# Altium schematic symbol library SCH - ARM CORTEX - ST STM32G031CxU UFQFPN48.SCHLIB: 1 symbol
Pins are listed as number, name and electrical type; pins without a type are passive.

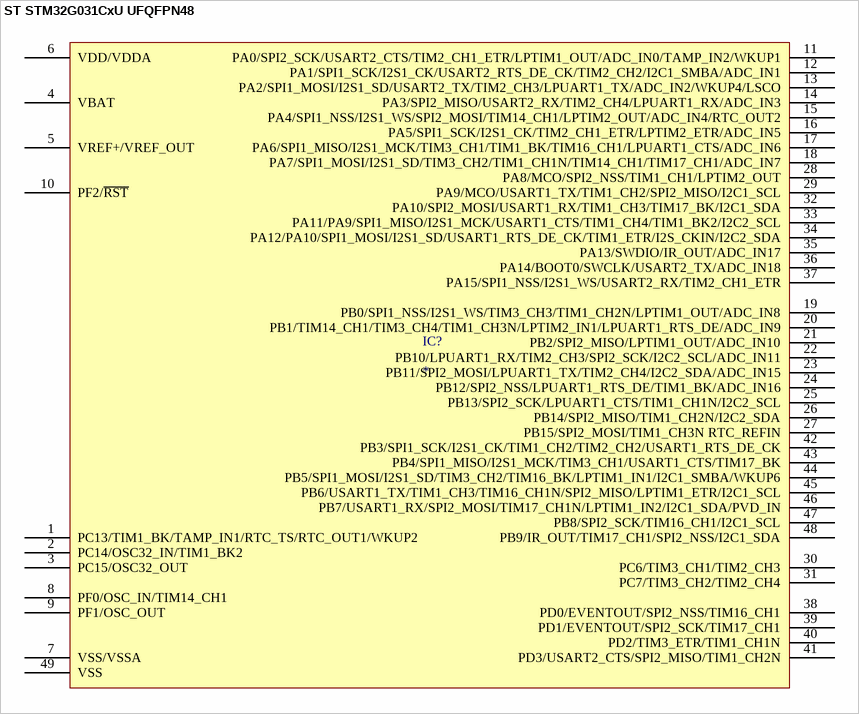
[diagram p0: symbol ST STM32G031CxU UFQFPN48]

## ST STM32G031CxU UFQFPN48
designator IC?
pins: 1 PC13/TIM1_BK/TAMP_IN1/RTC_TS/RTC_OUT1/WKUP2, 2 PC14/OSC32_IN/TIM1_BK2, 3 PC15/OSC32_OUT, 4 VBAT, 5 VREF+/VREF_OUT, 6 VDD/VDDA, 7 VSS/VSSA, 8 PF0/OSC_IN/TIM14_CH1, 9 PF1/OSC_OUT, 10 PF2/~{RST}, 11 PA0/SPI2_SCK/USART2_CTS/TIM2_CH1_ETR/LPTIM1_OUT/ADC_IN0/TAMP_IN2/WKUP1, 12 PA1/SPI1_SCK/I2S1_CK/USART2_RTS_DE_CK/TIM2_CH2/I2C1_SMBA/ADC_IN1, 13 PA2/SPI1_MOSI/I2S1_SD/USART2_TX/TIM2_CH3/LPUART1_TX/ADC_IN2/WKUP4/LSCO, 14 PA3/SPI2_MISO/USART2_RX/TIM2_CH4/LPUART1_RX/ADC_IN3, 15 PA4/SPI1_NSS/I2S1_WS/SPI2_MOSI/TIM14_CH1/LPTIM2_OUT/ADC_IN4/RTC_OUT2, 16 PA5/SPI1_SCK/I2S1_CK/TIM2_CH1_ETR/LPTIM2_ETR/ADC_IN5, 17 PA6/SPI1_MISO/I2S1_MCK/TIM3_CH1/TIM1_BK/TIM16_CH1/LPUART1_CTS/ADC_IN6, 18 PA7/SPI1_MOSI/I2S1_SD/TIM3_CH2/TIM1_CH1N/TIM14_CH1/TIM17_CH1/ADC_IN7, 19 PB0/SPI1_NSS/I2S1_WS/TIM3_CH3/TIM1_CH2N/LPTIM1_OUT/ADC_IN8, 20 PB1/TIM14_CH1/TIM3_CH4/TIM1_CH3N/LPTIM2_IN1/LPUART1_RTS_DE/ADC_IN9, 21 PB2/SPI2_MISO/LPTIM1_OUT/ADC_IN10, 22 PB10/LPUART1_RX/TIM2_CH3/SPI2_SCK/I2C2_SCL/ADC_IN11, 23 PB11/SPI2_MOSI/LPUART1_TX/TIM2_CH4/I2C2_SDA/ADC_IN15, 24 PB12/SPI2_NSS/LPUART1_RTS_DE/TIM1_BK/ADC_IN16, 25 PB13/SPI2_SCK/LPUART1_CTS/TIM1_CH1N/I2C2_SCL, 26 PB14/SPI2_MISO/TIM1_CH2N/I2C2_SDA, 27 PB15/SPI2_MOSI/TIM1_CH3N RTC_REFIN, 28 PA8/MCO/SPI2_NSS/TIM1_CH1/LPTIM2_OUT, 29 PA9/MCO/USART1_TX/TIM1_CH2/SPI2_MISO/I2C1_SCL, 30 PC6/TIM3_CH1/TIM2_CH3, 31 PC7/TIM3_CH2/TIM2_CH4, 32 PA10/SPI2_MOSI/USART1_RX/TIM1_CH3/TIM17_BK/I2C1_SDA, 33 PA11/PA9/SPI1_MISO/I2S1_MCK/USART1_CTS/TIM1_CH4/TIM1_BK2/I2C2_SCL, 34 PA12/PA10/SPI1_MOSI/I2S1_SD/USART1_RTS_DE_CK/TIM1_ETR/I2S_CKIN/I2C2_SDA, 35 PA13/SWDIO/IR_OUT/ADC_IN17, 36 PA14/BOOT0/SWCLK/USART2_TX/ADC_IN18, 37 PA15/SPI1_NSS/I2S1_WS/USART2_RX/TIM2_CH1_ETR, 38 PD0/EVENTOUT/SPI2_NSS/TIM16_CH1, 39 PD1/EVENTOUT/SPI2_SCK/TIM17_CH1, 40 PD2/TIM3_ETR/TIM1_CH1N, 41 PD3/USART2_CTS/SPI2_MISO/TIM1_CH2N, 42 PB3/SPI1_SCK/I2S1_CK/TIM1_CH2/TIM2_CH2/USART1_RTS_DE_CK, 43 PB4/SPI1_MISO/I2S1_MCK/TIM3_CH1/USART1_CTS/TIM17_BK, 44 PB5/SPI1_MOSI/I2S1_SD/TIM3_CH2/TIM16_BK/LPTIM1_IN1/I2C1_SMBA/WKUP6, 45 PB6/USART1_TX/TIM1_CH3/TIM16_CH1N/SPI2_MISO/LPTIM1_ETR/I2C1_SCL, 46 PB7/USART1_RX/SPI2_MOSI/TIM17_CH1N/LPTIM1_IN2/I2C1_SDA/PVD_IN, 47 PB8/SPI2_SCK/TIM16_CH1/I2C1_SCL, 48 PB9/IR_OUT/TIM17_CH1/SPI2_NSS/I2C1_SDA, 49 VSS